# EAGLE library part ELM320?(V2.0) (library Elm Electronics)
ELM320 - OBD (PWM) to RS232 Interpreter (v2.0) based on Microchip Technology Inc.'s PIC12C509A (www.microchip.com) The ELM320 supports the 41.6KHz SAE J1850 PWM protocol, which was commonly used in many Ford Motor Company vehicles (but has now generally been replaced by CAN). More info on Elm Electronics Inc. <www.elmelectronics.com>.
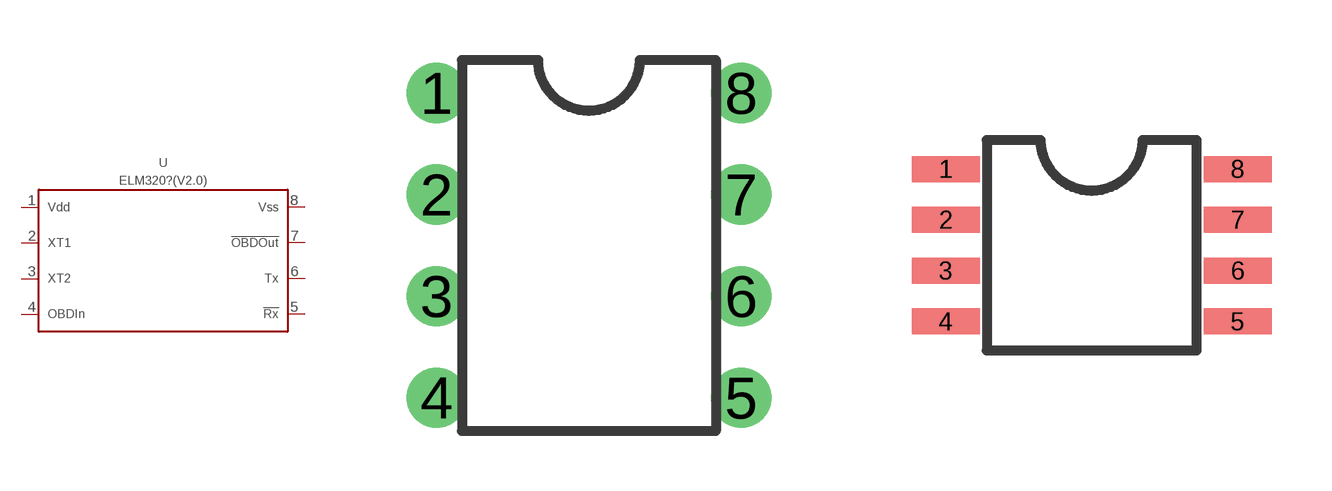
[diagram p4: symbol with the pads of PDIP(8); footprints PDIP(8), SOIJ(8)]

Designator prefix U

## ELM320P(V2.0)  [PDIP(8)]
1  VDD
2  XT1
3  XT2
4  OBDIN
5  !RX
6  TX
7  !OBDOUT
8  VSS

## ELM320SM(V2.0)  [SOIJ(8)]
Pads as for PDIP(8)

## Footprint PDIP(8) (pad centres in mm)
8-Lead Plastic Dual In-Line (P) - 300 mil Body [PDIP]
drill 1 pad 1.5: 1 -3.81,3.81; 2 -3.81,1.27; 3 -3.81,-1.27; 4 -3.81,-3.81; 5 3.81,-3.81; 6 3.81,-1.27; 7 3.81,1.27; 8 3.81,3.81

## Footprint SOIJ(8) (pad centres in mm)
8-Lead Plastic Small Outline (SM) - Medium, 5.28 mm Body [SOIJ]
smd 1.7 x 0.65: 1 -3.65,1.905; 2 -3.65,0.635; 3 -3.65,-0.635; 4 -3.65,-1.905; 5 3.65,-1.905; 6 3.65,-0.635; 7 3.65,0.635; 8 3.65,1.905